# EAGLE library part SCHALTREGLER-R-PUSON-N6 (library TI Schaltregler)
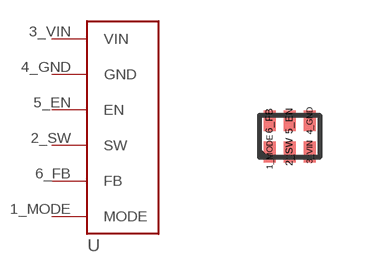
[diagram p0: symbol with the pads of R-PUSON-N6; footprint R-PUSON-N6]

Designator prefix -

## SCHALTREGLER-R-PUSON-N6  [R-PUSON-N6]
1_MODE  MODE
2_SW  SW
3_VIN  VIN
4_GND  GND
5_EN  EN
6_FB  FB

## Footprint R-PUSON-N6 (pad centres in mm)
smd 0.3 x 0.52: 1_MODE -0.5,-0.39; 2_SW 0,-0.39; 3_VIN 0.5,-0.39; 4_GND 0.5,0.39; 5_EN 0,0.39; 6_FB -0.5,0.39